# EAGLE library part LM358MX (library FaBo-Opamp)
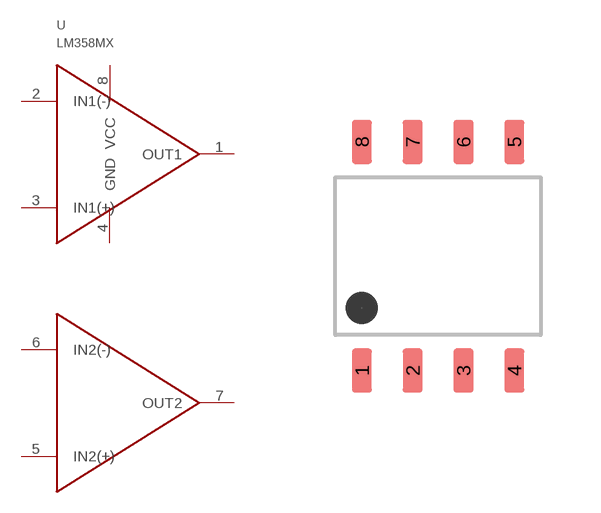
[diagram p3: symbol with the pads of SOP8; footprint SOP8]

Designator prefix U

## LM358MX  [SOP8]
1  OUT1
2  IN1(-)
3  IN1(+)
4  GND
5  IN2(+)
6  IN2(-)
7  OUT2
8  VCC

## Footprint SOP8 (pad centres in mm)
smd 0.5 x 1.1: 1 -1.905,-2.86; 2 -0.635,-2.86; 3 0.635,-2.86; 4 1.905,-2.86; 5 1.905,2.86; 6 0.635,2.86; 7 -0.635,2.86; 8 -1.905,2.86